# Altium schematic symbol library Intel4001-4289chip.SchLib: 4 symbols
Pins are listed as number, name and electrical type; pins without a type are passive.

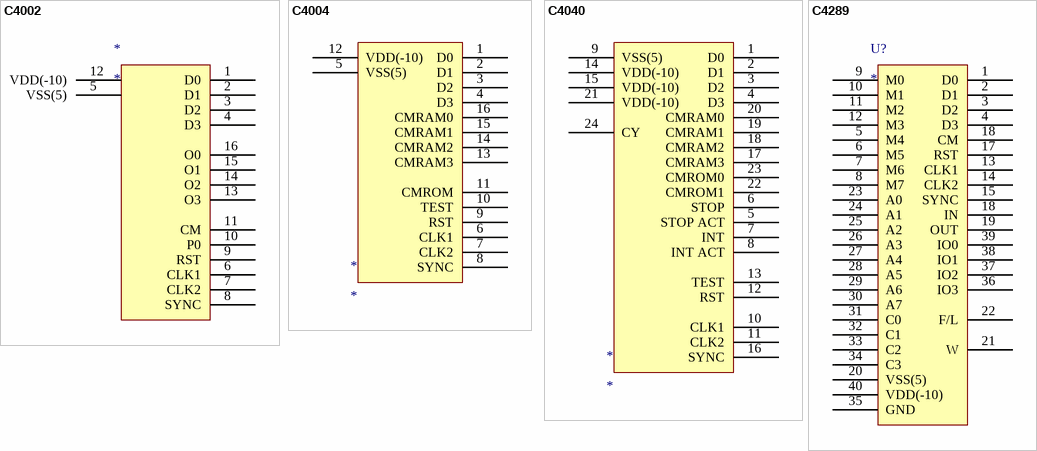
[diagram p0: symbols C4002 to C4289]

## C4002
designator *
pins: 1 D0, 2 D1, 3 D2, 4 D3, 5 VSS(5), 6 CLK1, 7 CLK2, 8 SYNC, 9 RST, 10 P0, 11 CM, 12 VDD(-10), 13 O3, 14 O2, 15 O1, 16 O0

## C4004
designator *
pins: 1 D0, 2 D1, 3 D2, 4 D3, 5 VSS(5), 6 CLK1, 7 CLK2, 8 SYNC, 9 RST, 10 TEST, 11 CMROM, 12 VDD(-10), 13 CMRAM3, 14 CMRAM2, 15 CMRAM1, 16 CMRAM0

## C4040
designator *
pins: 1 D0, 2 D1, 3 D2, 4 D3, 5 STOP ACT, 6 STOP, 7 INT, 8 INT ACT, 9 VSS(5), 10 CLK1, 11 CLK2, 12 RST, 13 TEST, 14 VDD(-10), 15 VDD(-10), 16 SYNC, 17 CMRAM3, 18 CMRAM2, 19 CMRAM1, 20 CMRAM0, 21 VDD(-10), 22 CMROM1, 23 CMROM0, 24 CY

## C4289
designator U?
pins: 1 D0, 2 D1, 3 D2, 4 D3, 5 M4, 6 M5, 7 M6, 8 M7, 9 M0, 10 M1, 11 M2, 12 M3, 13 CLK1, 14 CLK2, 15 SYNC, 17 RST, 18 CM, 18 IN, 19 OUT, 20 VSS(5), 21 W, 22 F/L, 23 A0, 24 A1, 25 A2, 26 A3, 27 A4, 28 A5, 29 A6, 30 A7, 31 C0, 32 C1, 33 C2, 34 C3, 35 GND, 36 IO3, 37 IO2, 38 IO1, 39 IO0, 40 VDD(-10)